# Altium footprint library 402.16-32.PcbLib: 1 footprints
Each footprint in its own frame and in the unit in brackets; x right, y up, seen from the top. Pads: shape width x height; smd on the part's side, far side on the other; paste and mask are expansions set on the pad; w line width, h text height; cw(c..) or ccw(c..) is an arc to the next point about the centre after c.
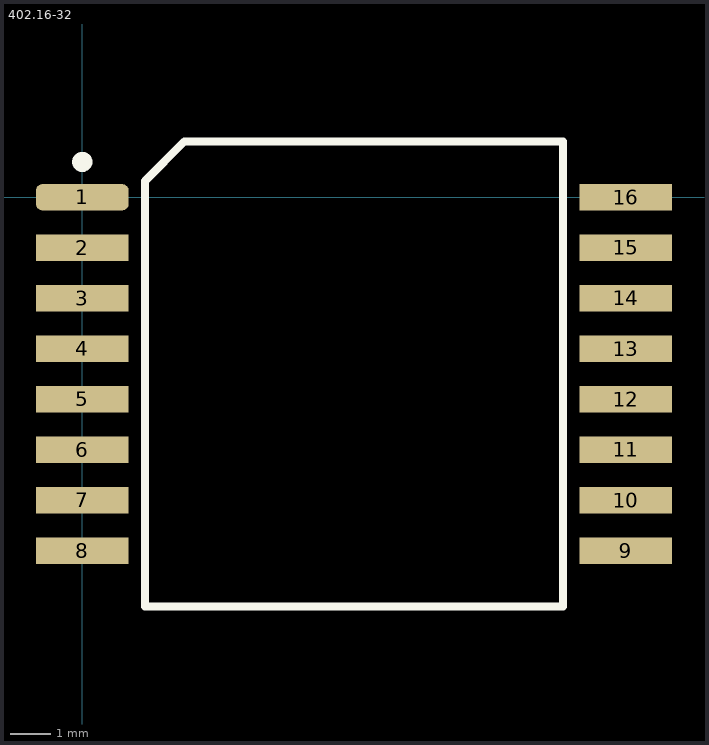
[diagram p0: the footprint, top view; thin cyan lines are the x and y axes]

## 402.16-32 [mm]
height 2.5
pads (16):
  rrect50% 2.3x0.65 smd: 1(0,0)
  rect 2.3x0.65 smd: 2(0,-1.25) 3(0,-2.5) 4(0,-3.75) 5(0,-5) 6(0,-6.25) 7(0,-7.5) 8(0,-8.75) 9(13.45,-8.75) 10(13.45,-7.5) 11(13.45,-6.25) 12(13.45,-5) 13(13.45,-3.75) 14(13.45,-2.5) 15(13.45,-1.25) 16(13.45,0)
Top Overlay:
  circle w0.25: c0,0.875 r0.125
  lines w0.2: 1.55,-10.125 1.55,0.4 2.525,1.375 11.9,1.375 11.9,-10.125 1.55,-10.125
3D body "402.16-32.step": height 2.5, standoff 0, extent -0.745,-10.125 14.195,1.375